# EAGLE library part SW-SLIDE-DPDT (library Others)
DPDT Slide Switch
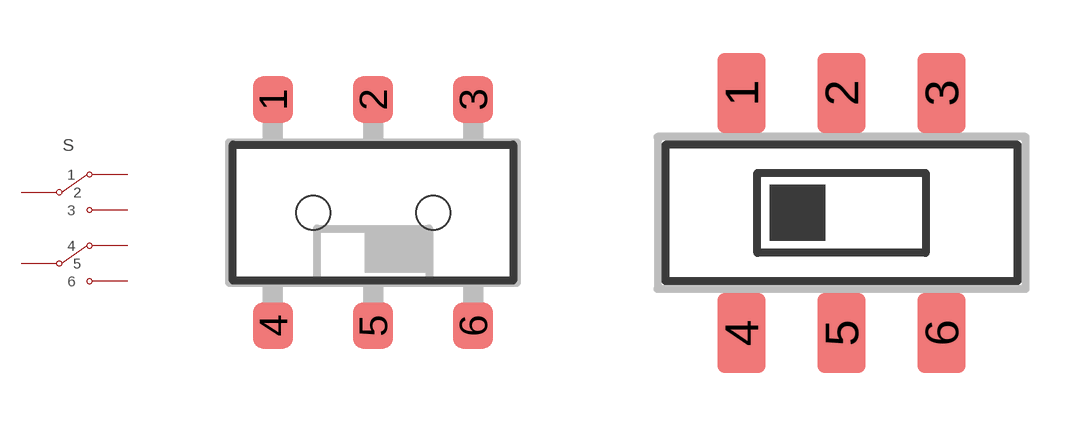
[diagram p1: symbol with the pads of SW-SLIDE-DPDT-AYZ0202AGRLC-SMD; footprints SW-SLIDE-DPDT-AYZ0202AGRLC-SMD, SW-SLIDE-DPDT-MSS22D18-SMD]

Designator prefix S

## SW-SLIDE-DPDT_(AYZ0202AGRLC-SMD) (DESC: SMD DPDT Slide Switch - AYZ0202AGRLC; MF: CK Components; MPN: AYZ0202AGRLC)  [SW-SLIDE-DPDT-AYZ0202AGRLC-SMD]
1  1
2  2
3  3
4  4
5  5
6  6

## SW-SLIDE-DPDT_(MSS22D18-SMD) (CYTRON-PC: S-SS-MSS22D18; DESC: SMD DPDT Slide Switch - MSS22D18; MPN: MSS22D18)  [SW-SLIDE-DPDT-MSS22D18-SMD]
Pads as for SW-SLIDE-DPDT-AYZ0202AGRLC-SMD

## Footprint SW-SLIDE-DPDT-AYZ0202AGRLC-SMD (pad centres in mm)
SMD DPDT Slide Switch - AYZ0202AGRLC Modification: 1. SC - Renamed to follow common standard.
smd 1 x 1.15: 1 -2.5,2.825; 2 0,2.825; 3 2.5,2.825; 4 -2.5,-2.825; 5 0,-2.825; 6 2.5,-2.825
hole 0.85 at -1.5,0
hole 0.85 at 1.5,0

## Footprint SW-SLIDE-DPDT-MSS22D18-SMD (pad centres in mm)
SMD DPDT Slide Switch - MSS22D18 Created by: SC Lim
smd 1.2 x 2: 1 -2.5,3; 2 0,3; 3 2.5,3; 4 -2.5,-3; 5 0,-3; 6 2.5,-3